# EAGLE library part HCPL-3120 (library sc_usercreated)
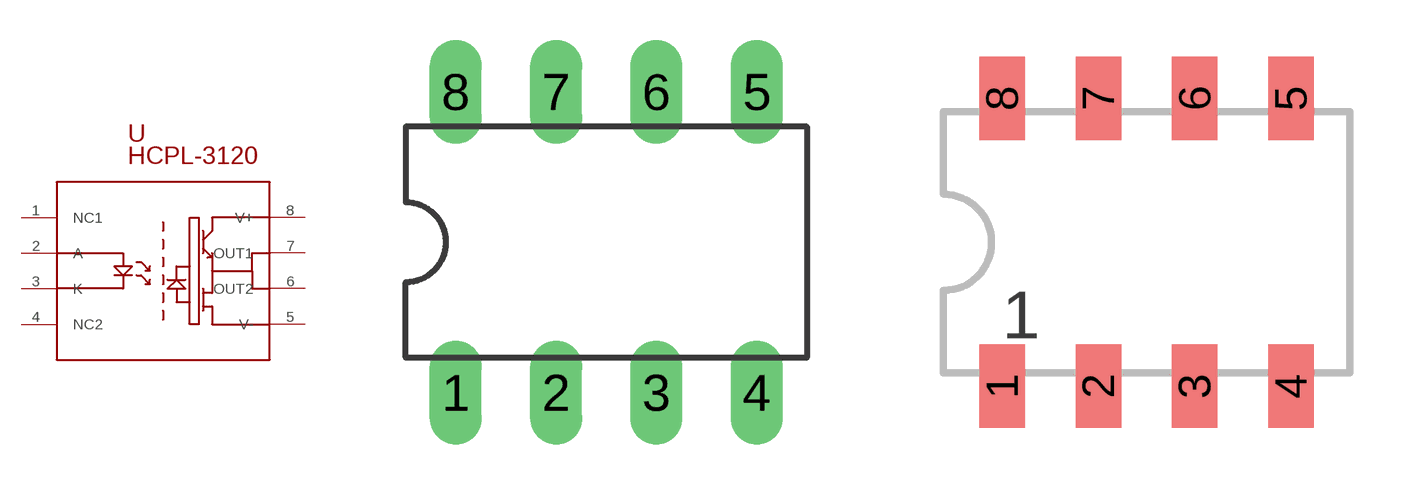
[diagram p4: symbol with the pads of 8DIP; footprints 8DIP, SMD8]

Designator prefix U

## HCPL-3120  [8DIP]
1  NC1
2  A
3  K
4  NC2
5  V-
6  OUT2
7  OUT1
8  V+

## HCPL-3120SMD  [SMD8]
Pads as for 8DIP

## Footprint 8DIP (pad centres in mm)
drill 0.813 long: 1 -3.81,-3.81; 2 -1.27,-3.81; 3 1.27,-3.81; 4 3.81,-3.81; 5 3.81,3.81; 6 1.27,3.81; 7 -1.27,3.81; 8 -3.81,3.81

## Footprint SMD8 (pad centres in mm)
smd 1.2 x 2.2: 1 -3.81,-3.8; 2 -1.27,-3.8; 3 1.27,-3.8; 4 3.81,-3.8; 5 3.81,3.8; 6 1.27,3.8; 7 -1.27,3.8; 8 -3.81,3.8